# Altium schematic symbol library UCC27511.Schlib: 1 symbol
Pins are listed as number, name and electrical type; pins without a type are passive.

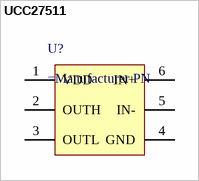
[diagram p0: symbol UCC27511]

## UCC27511
designator U?
Single Channel High-Speed Low-Side Gate Driver
pins: 1 VDD, 2 OUTH, 3 OUTL, 4 GND, 5 IN-, 6 IN+